# EAGLE library part CY7C65211-?XI* (library cypress_usb-serial)
USB-Serial Single-Channel (UART/I2C/SPI) Bridge with CapSense® and BCD Features: USB 2.0 certified, Full-Speed (12 Mbps) Single-channel configurable UART interface Single-channel configurable SPI interface Single-channel configurable I2C interface CapSense® General-purpose input/output (GPIO) pins: 10 Source: http://www.cypress.com/?docID=49672
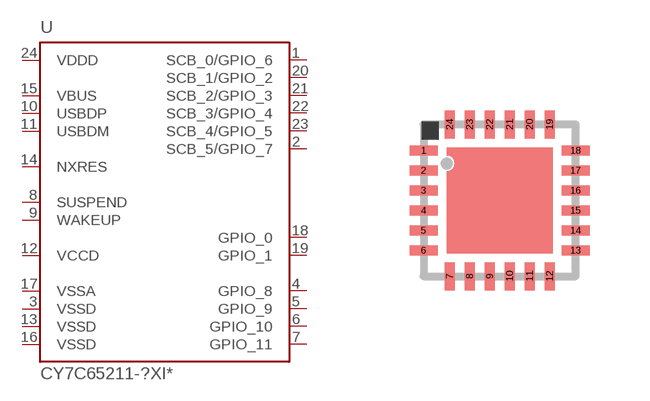
[diagram p3: symbol with the pads of QFN24; footprint QFN24]

Designator prefix -

## CY7C65211-24LTXI (MPN: CY7C65211-24LTXI; OC_DIGIKEY: CY7C65211-24LTXI-ND; OC_FARNELL: 2345647; OC_MOUSER: 727-CY7C65211-24LTXI; OC_NEWARK: 06X1913; TAPE_REEL: NO), CY7C65211-24LTXIT (MPN: CY7C65211-24LTXIT; OC_DIGIKEY: unknown; OC_FARNELL: unknown; OC_MOUSER: 727-CY7C6521124LTXIT; OC_NEWARK: 46X1383; TAPE_REEL: YES)  [QFN24]
1  SCB_0/GPIO_6
2  SCB_5/GPIO_7
3  VSSD  pwr
4  GPIO_8
5  GPIO_9
6  GPIO_10
7  GPIO_11
8  SUSPEND  out
9  WAKEUP  in
10  USBDP
11  USBDM
12  VCCD  pwr
13  VSSD  pwr
14  NXRES  in
15  VBUS  pwr
16  VSSD  pwr
17  VSSA  pwr
18  GPIO_0
19  GPIO_1
20  SCB_1/GPIO_2
21  SCB_2/GPIO_3
22  SCB_3/GPIO_4
23  SCB_4/GPIO_5
24  VDDD  pwr

## Footprint QFN24 (pad centres in mm)
24-pin QFN (4.00 × 4.00 × 0.55 mm, 0.5 mm pitch) Original part from linear-technology.lbr.
smd 0.7 x 0.25: 1 -1.9,1.25; 2 -1.9,0.75; 3 -1.9,0.25; 4 -1.9,-0.25; 5 -1.9,-0.75; 6 -1.9,-1.25; 13 1.9,-1.25; 14 1.9,-0.75; 15 1.9,-0.25; 16 1.9,0.25; 17 1.9,0.75; 18 1.9,1.25
smd 0.25 x 0.7: 7 -1.25,-1.9; 8 -0.75,-1.9; 9 -0.25,-1.9; 10 0.25,-1.9; 11 0.75,-1.9; 12 1.25,-1.9; 19 1.25,1.9; 20 0.75,1.9; 21 0.25,1.9; 22 -0.25,1.9; 23 -0.75,1.9; 24 -1.25,1.9